# Altium schematic symbol library Net Tie.SchLib: 3 symbols
Pins are listed as number, name and electrical type; pins without a type are passive.

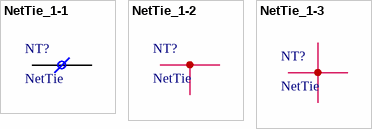
[diagram p0: symbols NetTie_1-1 to NetTie_1-3]

## NetTie_1-1
designator NT?, comment NetTie  (net tie, no BOM)
Net Tie One to One Connection; Company: SJ Libraries; Designer: Eng. Saeid Jorablo; HelpURL: http://s3.picofile.com/file/7443264187/Coming_Soon_logo.gif; ComponentLink1Description: Datasheet; ComponentLink2Description: Reference; Mounting Technology: Surface Mount\Through-Hole; Publisher: SJ Unlimited; Status: Unreleased
footprint NT_1-1_1 (NetTie One to One)
footprint NT_1-1_3 (NetTie One to One)
footprint NT_1-1_1 - small (NetTie One to One)
footprint NT_1-1_3 - small (NetTie One to One)
footprint NT_1X1X01 (NetTie One to One - 0.1mm width)
footprint NT_1X1X02 (NetTie One to One - 0.2mm width)
footprint NT_1X1X03 (NetTie One to One- 0.3mm width)
footprint NT_1X1X04 (NetTie One to One- 0.4mm width)
footprint NT_1X1X05 (NetTie One to One- 0.5mm width)
footprint NT_1X1X06 (NetTie One to One- 0.6mm width)
footprint NT_1X1X07 (NetTie One to One- 0.7mm width)
footprint NT_1X1X08 (NetTie One to One- 0.8mm width)
footprint NT_1X1X09 (NetTie One to One- 0.9mm width)
footprint NT_1X1X10 (NetTie One to One- 1.0mm width)
footprint NT_1X1X12 (NetTie One to One- 1.2mm width)
footprint NT_1X1X15 (NetTie One to One- 1.5mm width)
footprint NT_1X1X20 (NetTie One to One- 2.0mm width)
pins: 1 (power), 2 (power)
1 alternate drawing of the same symbol

## NetTie_1-2
designator NT?, comment NetTie  (net tie, no BOM)
Net Tie One to Two Connection; Company: SJ Libraries; Designer: Eng. Saeid Jorablo; HelpURL: http://s3.picofile.com/file/7443264187/Coming_Soon_logo.gif; ComponentLink1Description: Datasheet; ComponentLink2Description: Reference; Mounting Technology: Surface Mount\Through-Hole; Publisher: SJ Unlimited; Status: Unreleased
footprint NT_1-2_1 (NetTie One to Two)
footprint NT_1-2_2 (NetTie One to Two)
footprint NT_1-2_3 (NetTie One to Two)
footprint NT_1-2_4 (NetTie One to Two)
footprint NT_1-2_5 (NetTie One to Two)
footprint NT_1-2_6 (NetTie One to Two)
footprint NT_1-2_1 - small (NetTie One to Two)
footprint NT_1-2_2 - small (NetTie One to Two)
pins: 1 (power), 2 (power), 3 (power)
1 alternate drawing of the same symbol

## NetTie_1-3
designator NT?, comment NetTie  (net tie, no BOM)
Net Tie One to Two Connection; Company: SJ Libraries; Designer: Eng. Saeid Jorablo; HelpURL: http://s3.picofile.com/file/7443264187/Coming_Soon_logo.gif; ComponentLink1Description: Datasheet; ComponentLink2Description: Reference; Mounting Technology: Surface Mount\Through-Hole; Publisher: SJ Unlimited; Status: Unreleased
footprint NT_1-3_1 (NetTie One to Three)
footprint NT_1-3_1 - small (NetTie One to Two)
footprint NT_1-3_2 (NetTie One to Three)
footprint NT_1-3_2 - small (NetTie One to Two)
footprint NT_1-3_3 (NetTie One to Three)
footprint NT_1-3_4 (NetTie One to Three)
footprint NT_1-3_5 (NetTie One to Two)
pins: 1 (power), 2 (power), 3 (power), 4 (power)
1 alternate drawing of the same symbol